# Altium integrated library Analog Devices Data Converters Digital-to-Analog Converters.IntLib: 2231 symbols (part 66 of 181)
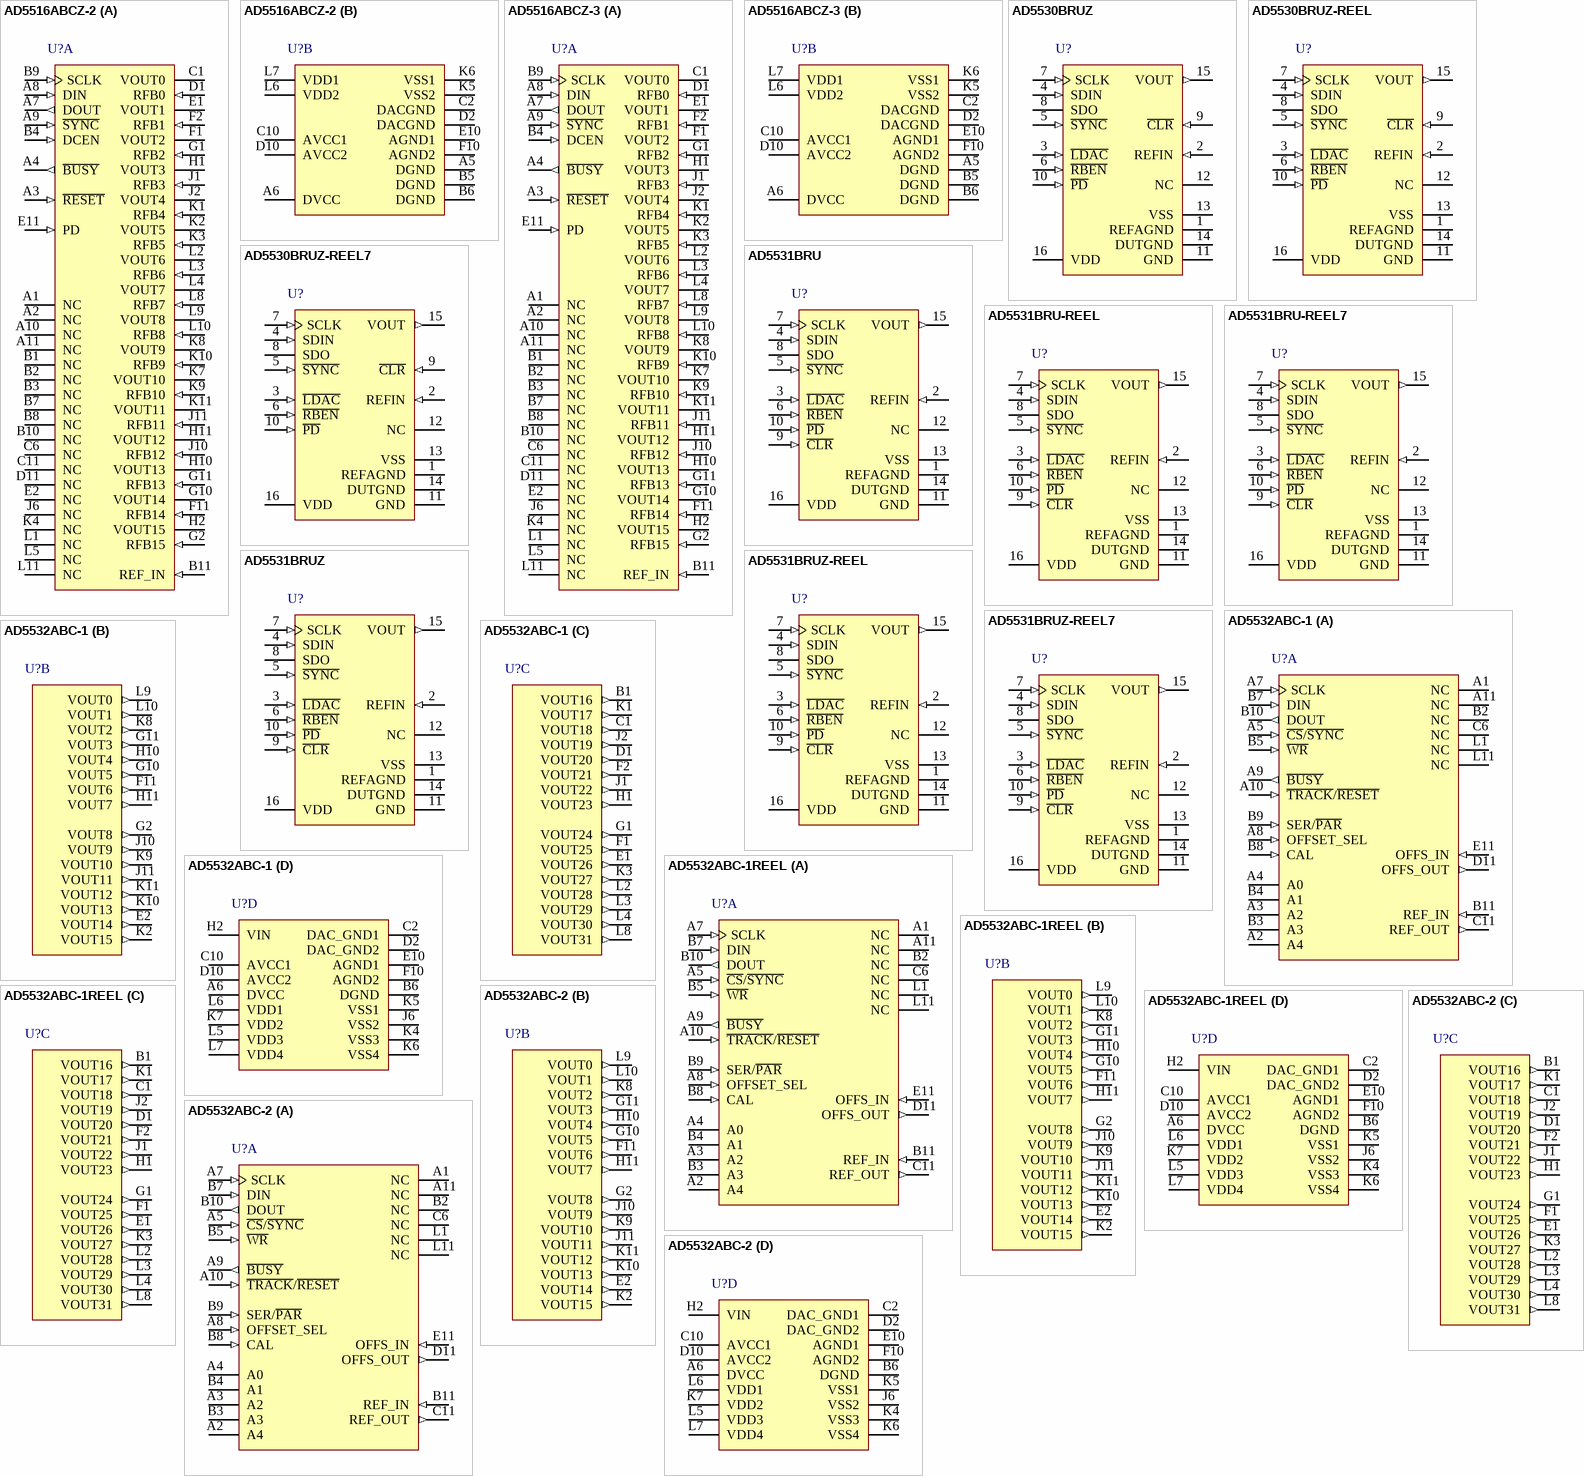
[diagram p179: symbols AD5516ABCZ-2 to AD5532ABC-2]

## AD5532ABC-1REEL
designator U?
32 Channel 14-Bit Digital-to-Analog Converter, -40 to +85 degC, BC-74, Reel; Generic Part Number: AD5532; Manufacturer: Analog Devices; PartNumber: AD5532ABC-1REEL; # DAC Outputs: 32; Max V+: 16.5V; Op Pwr Diss: 623mW; Resolution (Bits): 14; Settling Time: 22µs; Single Supply: No; DatasheetVersion: Rev.D; PackageVersion: 061306-A; PackageReference: BC-74; PackageDescription: 74-Ball Chip Scale Package Ball Grid Array [CSP_BGA]; Supplier 1: Mouser; Supplier Part Number 1: N/A; Packing: Reel; RoHS: N; Mounting Technology: Surface Mount; Code_JEDEC: MO-192-ABD-1; ComponentLink1Description: Manufacturer URL; ComponentLink1URL: http://www.analog.com/en/index.html; ComponentLink2Description: Datasheet; ComponentLink2URL: http://www.analog.com/static/imported-files/data_sheets/AD5532.pdf; ComponentLink3Description: Package Specification; ComponentLink3URL: http://www.analog.com/static/imported-files/packages/466795438540441203902150BC_74.pdf; ComponentLink4Description: Product URL; ComponentLink4URL: http://www.analog.com/en/digital-to-analog-converters/da-converters/ad5532/products/product.html
footprint BC-74 (BGA, 74-Leads, Body 12x12mm, Pitch 1mm)
part A pins: A1 NC "Not connected", A2 A4 "Parallel Interface: 5 address pins for 32 channels. A4 = MSB of channel address. A0 = LSB. Internal pull-up devices on these logic inputs. Therefore, they can be left floating and default to a logic high condition.", A3 A2 "Parallel Interface: 5 address pins for 32 channels. A4 = MSB of channel address. A0 = LSB. Internal pull-up devices on these logic inputs. Therefore, they can be left floating and default to a logic high condition.", A4 A0 "Parallel Interface: 5 address pins for 32 channels. A4 = MSB of channel address. A0 = LSB. Internal pull-up devices on these logic inputs. Therefore, they can be left floating and default to a logic high condition.", A5 ~{CS}/~{SYNC} (in) "This is the active low Chip Select pin for the parallel interface and the Frame Synchronization pin for the serial interface.", A7 SCLK (in) "Serial Clock Input for Serial Interface. This operates at clock speeds up to 14 MHz (20 MHz in ISHA mode).", A8 OFFSET_SEL (in) "Parallel interface: Offset Select pin; active high. This is used to select the offset channel. Internal pull-down devices on these logic inputs. Therefore, they can be left floating and default to a logic low condition", A9 ~{BUSY} (out) "This output tells the user when the input voltage is being acquired. It goes low during acquisition and returns high when the acquisition operation is complete.", A10 ~{TRACK}/~{RESET} (in) "If this input is held high, VIN is acquired once the channel is addressed. While it is held low, the input to the gain/offset stage is switched directly to VIN. The addressed channel begins to acquire VIN on the rising edge (See Datasheet)", A11 NC "Not connected", B2 NC "Not connected", B3 A3 "Parallel Interface: 5 address pins for 32 channels. A4 = MSB of channel address. A0 = LSB. Internal pull-up devices on these logic inputs. Therefore, they can be left floating and default to a logic high condition.", B4 A1 "Parallel Interface: 5 address pins for 32 channels. A4 = MSB of channel address. A0 = LSB. Internal pull-up devices on these logic inputs. Therefore, they can be left floating and default to a logic high condition.", B5 ~{WR} (in) "Parallel interface: Write pin; active low. This is used in conjunction with the C\S\ pin to address the device using the parallel interface. Internal pull-down devices on these logic inputs. Therefore, they can be left (See Datasheet)", B7 DIN (in) "Data Input for Serial Interface. Data must be valid on the falling edge of SCLK. Internal pull-up devices on these logic inputs. Therefore, they can be left floating and default to a logic high condition.", B8 CAL (in) "Parallel Interface: Control input that allows all 32 channels to acquire VIN simultaneously. Internal pull-down devices on these logic inputs. Therefore, they can be left floating and default to a logic low condition", B9 SER/~{PAR} (in) "This pin allows the user to select whether the serial or parallel interface is used. If the pin is tied low, the parallel interface is used. If it is tied high, the serial interface is used. Internal pull-down devices on (See Datasheet)", B10 DOUT (out) "Output from the DAC registers for read back. Data is clocked out on the rising edge of SCLK and is valid on the falling edge of SCLK.", B11 REF_IN (in) "Reference voltage for Channels 0-31.", C6 NC "Not connected", C11 REF_OUT (out) "Reference Output Voltage.", D11 OFFS_OUT (out) "Offset Output. This is the acquired/programmed offset voltage which can be tied to OFFS_IN to offset the span.", E11 OFFS_IN (in) "Offset Input. The user can supply a voltage here to offset the output span. OFFS_OUT can also be tied to this pin if the user wants to drive this pin with the offset channel.", L1 NC "Not connected", L11 NC "Not connected"
part B pins: E2 VOUT14 (out) "Analog Output Voltages from the 32 channels.", F11 VOUT6 (out) "Analog Output Voltages from the 32 channels.", G2 VOUT8 (out) "Analog Output Voltages from the 32 channels.", G10 VOUT5 (out) "Analog Output Voltages from the 32 channels.", G11 VOUT3 (out) "Analog Output Voltages from the 32 channels.", H10 VOUT4 (out) "Analog Output Voltages from the 32 channels.", H11 VOUT7 (out) "Analog Output Voltages from the 32 channels.", J10 VOUT9 (out) "Analog Output Voltages from the 32 channels.", J11 VOUT11 (out) "Analog Output Voltages from the 32 channels.", K2 VOUT15 (out) "Analog Output Voltages from the 32 channels.", K8 VOUT2 (out) "Analog Output Voltages from the 32 channels.", K9 VOUT10 (out) "Analog Output Voltages from the 32 channels.", K10 VOUT13 (out) "Analog Output Voltages from the 32 channels.", K11 VOUT12 (out) "Analog Output Voltages from the 32 channels.", L9 VOUT0 (out) "Analog Output Voltages from the 32 channels.", L10 VOUT1 (out) "Analog Output Voltages from the 32 channels."
part C pins: B1 VOUT16 (out) "Analog Output Voltages from the 32 channels.", C1 VOUT18 (out) "Analog Output Voltages from the 32 channels.", D1 VOUT20 (out) "Analog Output Voltages from the 32 channels.", E1 VOUT26 (out) "Analog Output Voltages from the 32 channels.", F1 VOUT25 (out) "Analog Output Voltages from the 32 channels.", F2 VOUT21 (out) "Analog Output Voltages from the 32 channels.", G1 VOUT24 (out) "Analog Output Voltages from the 32 channels.", H1 VOUT23 (out) "Analog Output Voltages from the 32 channels.", J1 VOUT22 (out) "Analog Output Voltages from the 32 channels.", J2 VOUT19 (out) "Analog Output Voltages from the 32 channels.", K1 VOUT17 (out) "Analog Output Voltages from the 32 channels.", K3 VOUT27 (out) "Analog Output Voltages from the 32 channels.", L2 VOUT28 (out) "Analog Output Voltages from the 32 channels.", L3 VOUT29 (out) "Analog Output Voltages from the 32 channels.", L4 VOUT30 (out) "Analog Output Voltages from the 32 channels.", L8 VOUT31 (out) "Analog Output Voltages from the 32 channels."
part D pins: A6 DVCC (power) "Digital Supply pin. Voltage range from 2.7 V to 5.25 V.", B6 DGND (power) "Digital GND pin.", C2 DAC_GND1 (power) "Reference GND supply for all DACs.", C10 AVCC1 (power) "Analog Supply pin. Voltage range from 4.75 V to 5.25 V.", D2 DAC_GND2 (power) "Reference GND supply for all DACs.", D10 AVCC2 (power) "Analog Supply pin. Voltage range from 4.75 V to 5.25 V.", E10 AGND1 (power) "Analog GND pin.", F10 AGND2 (power) "Analog GND pin.", H2 VIN (power) "Analog Input Voltage. Connect this to AGND if operating in DAC mode only.", J6 VSS2 (power) "VSS Supply pins. Voltage range from -4.75 V to -16.5 V.", K4 VSS3 (power) "VSS Supply pin. Voltage range from -4.75 V to -16.5 V.", K5 VSS1 (power) "VSS Supply pin. Voltage range from -4.75 V to -16.5 V.", K6 VSS4 (power) "VSS Supply pin. Voltage range from -4.75 V to -16.5 V.", K7 VDD2 (power) "VDD Supply pin. Voltage range from 8 V to 16.5 V.", L5 VDD3 (power) "VDD Supply pin. Voltage range from 8 V to 16.5 V.", L6 VDD1 (power) "VDD Supply pin. Voltage range from 8 V to 16.5 V.", L7 VDD4 (power) "VDD Supply pin. Voltage range from 8 V to 16.5 V."

## AD5532ABC-2
designator U?
32 Channel 14-Bit Digital-to-Analog Converter, -40 to +85 degC, BC-74, Tray; Generic Part Number: AD5532; Manufacturer: Analog Devices; PartNumber: AD5532ABC-2; # DAC Outputs: 32; Max V+: 16.5V; Op Pwr Diss: 623mW; Resolution (Bits): 14; Settling Time: 22µs; Single Supply: No; DatasheetVersion: Rev.D; PackageVersion: 061306-A; PackageReference: BC-74; PackageDescription: 74-Ball Chip Scale Package Ball Grid Array [CSP_BGA]; Supplier 1: Digi-Key; Supplier Part Number 1: AD5532ABC-2-ND; Supplier 2: Newark; Supplier Part Number 2: 02H1508; Supplier 3: Mouser; Supplier Part Number 3: 584-AD5532ABC-2; Packing: Tray; RoHS: N; Mounting Technology: Surface Mount; Code_JEDEC: MO-192-ABD-1; ComponentLink1Description: Manufacturer URL; ComponentLink1URL: http://www.analog.com/en/index.html; ComponentLink2Description: Datasheet; ComponentLink2URL: http://www.analog.com/static/imported-files/data_sheets/AD5532.pdf; ComponentLink3Description: Package Specification; ComponentLink3URL: http://www.analog.com/static/imported-files/packages/466795438540441203902150BC_74.pdf; ComponentLink4Description: Product URL; ComponentLink4URL: http://www.analog.com/en/digital-to-analog-converters/da-converters/ad5532/products/product.html
footprint BC-74 (BGA, 74-Leads, Body 12x12mm, Pitch 1mm)
part A pins: A1 NC "Not connected", A2 A4 "Parallel Interface: 5 address pins for 32 channels. A4 = MSB of channel address. A0 = LSB. Internal pull-up devices on these logic inputs. Therefore, they can be left floating and default to a logic high condition.", A3 A2 "Parallel Interface: 5 address pins for 32 channels. A4 = MSB of channel address. A0 = LSB. Internal pull-up devices on these logic inputs. Therefore, they can be left floating and default to a logic high condition.", A4 A0 "Parallel Interface: 5 address pins for 32 channels. A4 = MSB of channel address. A0 = LSB. Internal pull-up devices on these logic inputs. Therefore, they can be left floating and default to a logic high condition.", A5 ~{CS}/~{SYNC} (in) "This is the active low Chip Select pin for the parallel interface and the Frame Synchronization pin for the serial interface.", A7 SCLK (in) "Serial Clock Input for Serial Interface. This operates at clock speeds up to 14 MHz (20 MHz in ISHA mode).", A8 OFFSET_SEL (in) "Parallel interface: Offset Select pin; active high. This is used to select the offset channel. Internal pull-down devices on these logic inputs. Therefore, they can be left floating and default to a logic low condition", A9 ~{BUSY} (out) "This output tells the user when the input voltage is being acquired. It goes low during acquisition and returns high when the acquisition operation is complete.", A10 ~{TRACK}/~{RESET} (in) "If this input is held high, VIN is acquired once the channel is addressed. While it is held low, the input to the gain/offset stage is switched directly to VIN. The addressed channel begins to acquire VIN on the rising edge (See Datasheet)", A11 NC "Not connected", B2 NC "Not connected", B3 A3 "Parallel Interface: 5 address pins for 32 channels. A4 = MSB of channel address. A0 = LSB. Internal pull-up devices on these logic inputs. Therefore, they can be left floating and default to a logic high condition.", B4 A1 "Parallel Interface: 5 address pins for 32 channels. A4 = MSB of channel address. A0 = LSB. Internal pull-up devices on these logic inputs. Therefore, they can be left floating and default to a logic high condition.", B5 ~{WR} (in) "Parallel interface: Write pin; active low. This is used in conjunction with the C\S\ pin to address the device using the parallel interface. Internal pull-down devices on these logic inputs. Therefore, they can be left (See Datasheet)", B7 DIN (in) "Data Input for Serial Interface. Data must be valid on the falling edge of SCLK. Internal pull-up devices on these logic inputs. Therefore, they can be left floating and default to a logic high condition.", B8 CAL (in) "Parallel Interface: Control input that allows all 32 channels to acquire VIN simultaneously. Internal pull-down devices on these logic inputs. Therefore, they can be left floating and default to a logic low condition", B9 SER/~{PAR} (in) "This pin allows the user to select whether the serial or parallel interface is used. If the pin is tied low, the parallel interface is used. If it is tied high, the serial interface is used. Internal pull-down devices on (See Datasheet)", B10 DOUT (out) "Output from the DAC registers for read back. Data is clocked out on the rising edge of SCLK and is valid on the falling edge of SCLK.", B11 REF_IN (in) "Reference voltage for Channels 0-31.", C6 NC "Not connected", C11 REF_OUT (out) "Reference Output Voltage.", D11 OFFS_OUT (out) "Offset Output. This is the acquired/programmed offset voltage which can be tied to OFFS_IN to offset the span.", E11 OFFS_IN (in) "Offset Input. The user can supply a voltage here to offset the output span. OFFS_OUT can also be tied to this pin if the user wants to drive this pin with the offset channel.", L1 NC "Not connected", L11 NC "Not connected"
part B pins: E2 VOUT14 (out) "Analog Output Voltages from the 32 channels.", F11 VOUT6 (out) "Analog Output Voltages from the 32 channels.", G2 VOUT8 (out) "Analog Output Voltages from the 32 channels.", G10 VOUT5 (out) "Analog Output Voltages from the 32 channels.", G11 VOUT3 (out) "Analog Output Voltages from the 32 channels.", H10 VOUT4 (out) "Analog Output Voltages from the 32 channels.", H11 VOUT7 (out) "Analog Output Voltages from the 32 channels.", J10 VOUT9 (out) "Analog Output Voltages from the 32 channels.", J11 VOUT11 (out) "Analog Output Voltages from the 32 channels.", K2 VOUT15 (out) "Analog Output Voltages from the 32 channels.", K8 VOUT2 (out) "Analog Output Voltages from the 32 channels.", K9 VOUT10 (out) "Analog Output Voltages from the 32 channels.", K10 VOUT13 (out) "Analog Output Voltages from the 32 channels.", K11 VOUT12 (out) "Analog Output Voltages from the 32 channels.", L9 VOUT0 (out) "Analog Output Voltages from the 32 channels.", L10 VOUT1 (out) "Analog Output Voltages from the 32 channels."
part C pins: B1 VOUT16 (out) "Analog Output Voltages from the 32 channels.", C1 VOUT18 (out) "Analog Output Voltages from the 32 channels.", D1 VOUT20 (out) "Analog Output Voltages from the 32 channels.", E1 VOUT26 (out) "Analog Output Voltages from the 32 channels.", F1 VOUT25 (out) "Analog Output Voltages from the 32 channels.", F2 VOUT21 (out) "Analog Output Voltages from the 32 channels.", G1 VOUT24 (out) "Analog Output Voltages from the 32 channels.", H1 VOUT23 (out) "Analog Output Voltages from the 32 channels.", J1 VOUT22 (out) "Analog Output Voltages from the 32 channels.", J2 VOUT19 (out) "Analog Output Voltages from the 32 channels.", K1 VOUT17 (out) "Analog Output Voltages from the 32 channels.", K3 VOUT27 (out) "Analog Output Voltages from the 32 channels.", L2 VOUT28 (out) "Analog Output Voltages from the 32 channels.", L3 VOUT29 (out) "Analog Output Voltages from the 32 channels.", L4 VOUT30 (out) "Analog Output Voltages from the 32 channels.", L8 VOUT31 (out) "Analog Output Voltages from the 32 channels."
part D pins: A6 DVCC (power) "Digital Supply pin. Voltage range from 2.7 V to 5.25 V.", B6 DGND (power) "Digital GND pin.", C2 DAC_GND1 (power) "Reference GND supply for all DACs.", C10 AVCC1 (power) "Analog Supply pin. Voltage range from 4.75 V to 5.25 V.", D2 DAC_GND2 (power) "Reference GND supply for all DACs.", D10 AVCC2 (power) "Analog Supply pin. Voltage range from 4.75 V to 5.25 V.", E10 AGND1 (power) "Analog GND pin.", F10 AGND2 (power) "Analog GND pin.", H2 VIN (power) "Analog Input Voltage. Connect this to AGND if operating in DAC mode only.", J6 VSS2 (power) "VSS Supply pins. Voltage range from -4.75 V to -16.5 V.", K4 VSS3 (power) "VSS Supply pin. Voltage range from -4.75 V to -16.5 V.", K5 VSS1 (power) "VSS Supply pin. Voltage range from -4.75 V to -16.5 V.", K6 VSS4 (power) "VSS Supply pin. Voltage range from -4.75 V to -16.5 V.", K7 VDD2 (power) "VDD Supply pin. Voltage range from 8 V to 16.5 V.", L5 VDD3 (power) "VDD Supply pin. Voltage range from 8 V to 16.5 V.", L6 VDD1 (power) "VDD Supply pin. Voltage range from 8 V to 16.5 V.", L7 VDD4 (power) "VDD Supply pin. Voltage range from 8 V to 16.5 V."

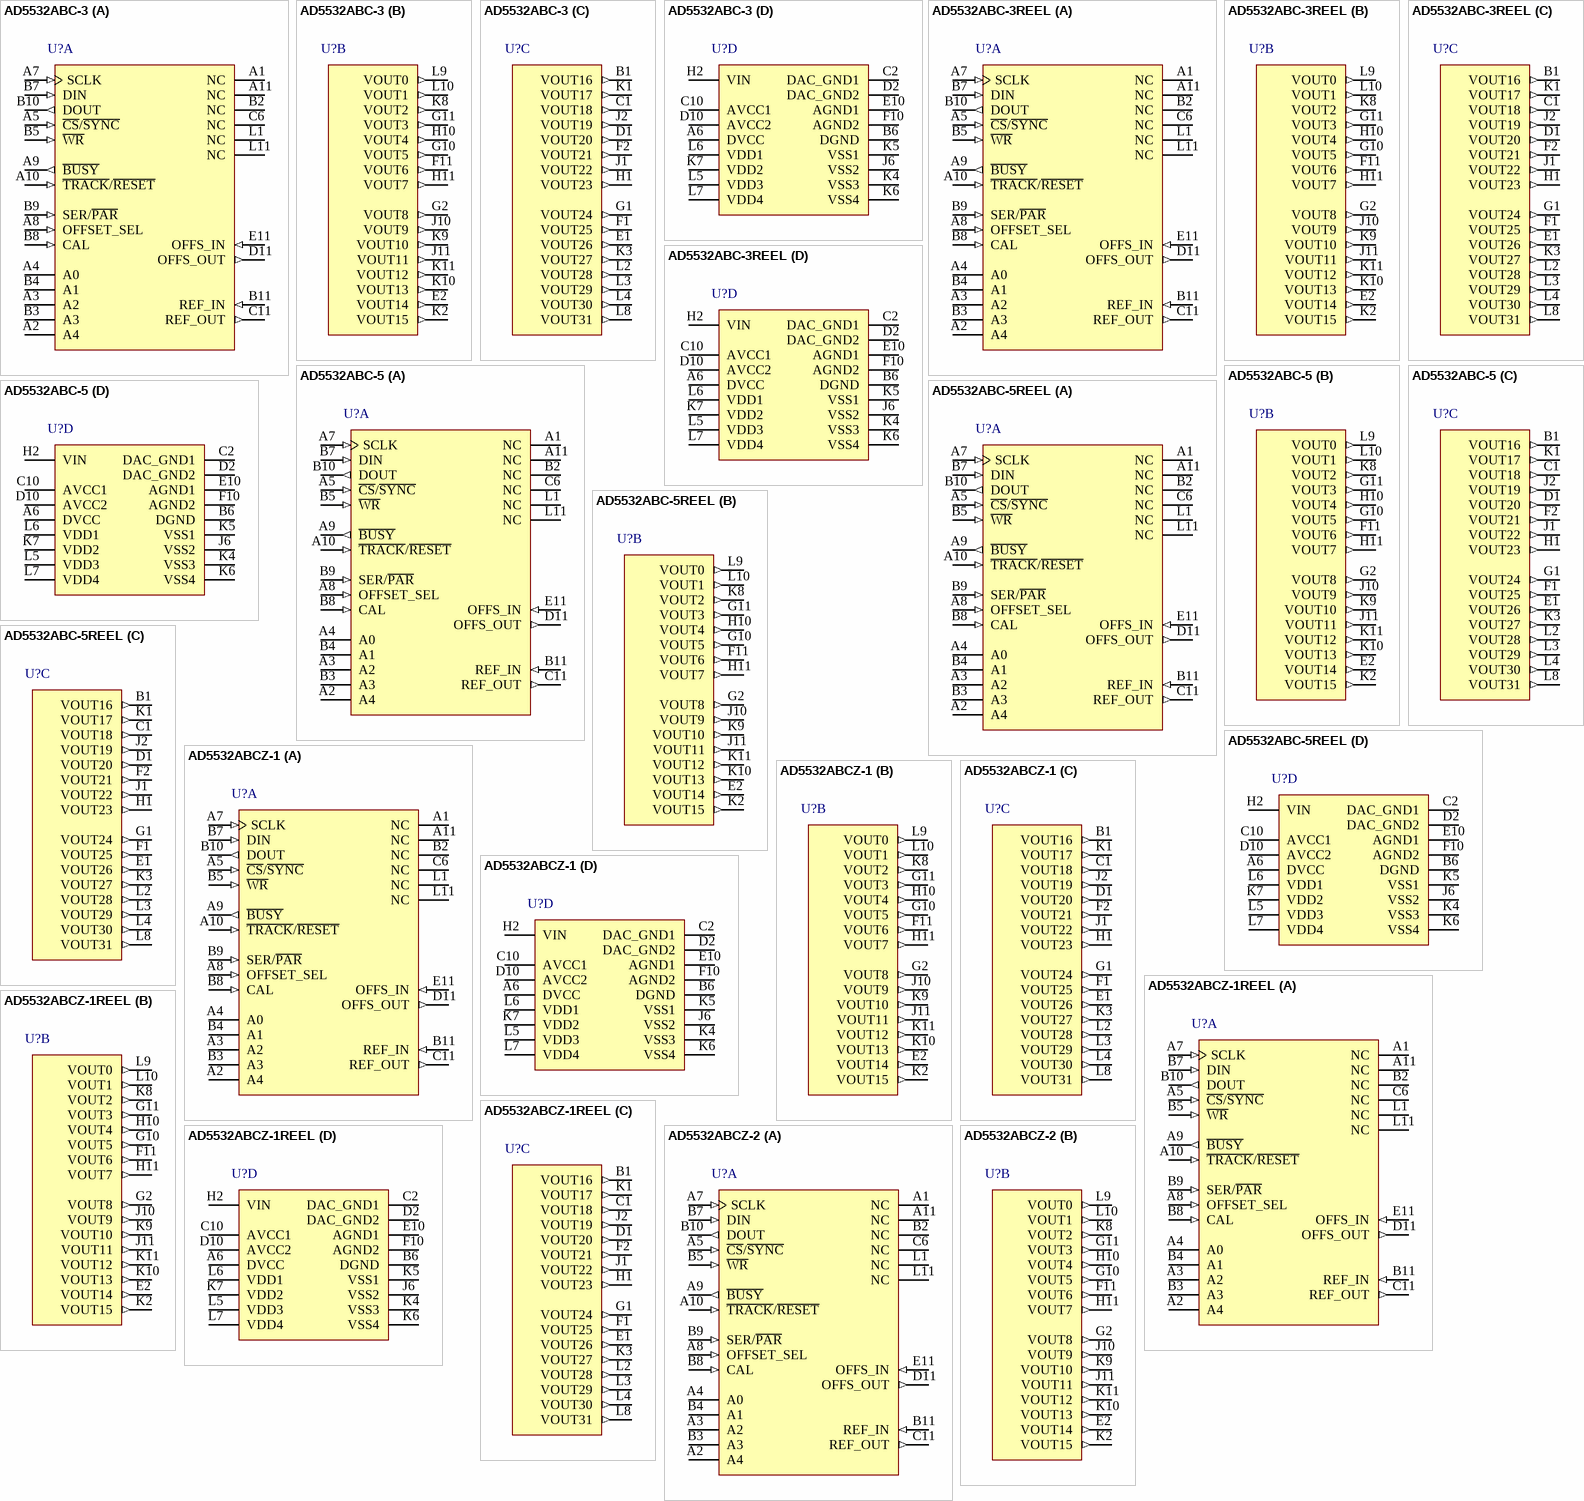
[diagram p36: symbols AD5532ABC-3 to AD5532ABCZ-2]

## AD5532ABC-3
designator U?
32 Channel 14-Bit Digital-to-Analog Converter, -40 to +85 degC, BC-74, Tray; Generic Part Number: AD5532; Manufacturer: Analog Devices; PartNumber: AD5532ABC-3; # DAC Outputs: 32; Max V+: 16.5V; Op Pwr Diss: 623mW; Resolution (Bits): 14; Settling Time: 22µs; Single Supply: No; DatasheetVersion: Rev.D; PackageVersion: 061306-A; PackageReference: BC-74; PackageDescription: 74-Ball Chip Scale Package Ball Grid Array [CSP_BGA]; Supplier 1: Digi-Key; Supplier Part Number 1: AD5532ABC-3-ND; Supplier 2: Mouser; Supplier Part Number 2: 584-AD5532ABC-3; Packing: Tray; RoHS: N; Mounting Technology: Surface Mount; Code_JEDEC: MO-192-ABD-1; ComponentLink1Description: Manufacturer URL; ComponentLink1URL: http://www.analog.com/en/index.html; ComponentLink2Description: Datasheet; ComponentLink2URL: http://www.analog.com/static/imported-files/data_sheets/AD5532.pdf; ComponentLink3Description: Package Specification; ComponentLink3URL: http://www.analog.com/static/imported-files/packages/466795438540441203902150BC_74.pdf; ComponentLink4Description: Product URL; ComponentLink4URL: http://www.analog.com/en/digital-to-analog-converters/da-converters/ad5532/products/product.html
footprint BC-74 (BGA, 74-Leads, Body 12x12mm, Pitch 1mm)
part A pins: A1 NC "Not connected", A2 A4 "Parallel Interface: 5 address pins for 32 channels. A4 = MSB of channel address. A0 = LSB. Internal pull-up devices on these logic inputs. Therefore, they can be left floating and default to a logic high condition.", A3 A2 "Parallel Interface: 5 address pins for 32 channels. A4 = MSB of channel address. A0 = LSB. Internal pull-up devices on these logic inputs. Therefore, they can be left floating and default to a logic high condition.", A4 A0 "Parallel Interface: 5 address pins for 32 channels. A4 = MSB of channel address. A0 = LSB. Internal pull-up devices on these logic inputs. Therefore, they can be left floating and default to a logic high condition.", A5 ~{CS}/~{SYNC} (in) "This is the active low Chip Select pin for the parallel interface and the Frame Synchronization pin for the serial interface.", A7 SCLK (in) "Serial Clock Input for Serial Interface. This operates at clock speeds up to 14 MHz (20 MHz in ISHA mode).", A8 OFFSET_SEL (in) "Parallel interface: Offset Select pin; active high. This is used to select the offset channel. Internal pull-down devices on these logic inputs. Therefore, they can be left floating and default to a logic low condition", A9 ~{BUSY} (out) "This output tells the user when the input voltage is being acquired. It goes low during acquisition and returns high when the acquisition operation is complete.", A10 ~{TRACK}/~{RESET} (in) "If this input is held high, VIN is acquired once the channel is addressed. While it is held low, the input to the gain/offset stage is switched directly to VIN. The addressed channel begins to acquire VIN on the rising edge (See Datasheet)", A11 NC "Not connected", B2 NC "Not connected", B3 A3 "Parallel Interface: 5 address pins for 32 channels. A4 = MSB of channel address. A0 = LSB. Internal pull-up devices on these logic inputs. Therefore, they can be left floating and default to a logic high condition.", B4 A1 "Parallel Interface: 5 address pins for 32 channels. A4 = MSB of channel address. A0 = LSB. Internal pull-up devices on these logic inputs. Therefore, they can be left floating and default to a logic high condition.", B5 ~{WR} (in) "Parallel interface: Write pin; active low. This is used in conjunction with the C\S\ pin to address the device using the parallel interface. Internal pull-down devices on these logic inputs. Therefore, they can be left (See Datasheet)", B7 DIN (in) "Data Input for Serial Interface. Data must be valid on the falling edge of SCLK. Internal pull-up devices on these logic inputs. Therefore, they can be left floating and default to a logic high condition.", B8 CAL (in) "Parallel Interface: Control input that allows all 32 channels to acquire VIN simultaneously. Internal pull-down devices on these logic inputs. Therefore, they can be left floating and default to a logic low condition", B9 SER/~{PAR} (in) "This pin allows the user to select whether the serial or parallel interface is used. If the pin is tied low, the parallel interface is used. If it is tied high, the serial interface is used. Internal pull-down devices on (See Datasheet)", B10 DOUT (out) "Output from the DAC registers for read back. Data is clocked out on the rising edge of SCLK and is valid on the falling edge of SCLK.", B11 REF_IN (in) "Reference voltage for Channels 0-31.", C6 NC "Not connected", C11 REF_OUT (out) "Reference Output Voltage.", D11 OFFS_OUT (out) "Offset Output. This is the acquired/programmed offset voltage which can be tied to OFFS_IN to offset the span.", E11 OFFS_IN (in) "Offset Input. The user can supply a voltage here to offset the output span. OFFS_OUT can also be tied to this pin if the user wants to drive this pin with the offset channel.", L1 NC "Not connected", L11 NC "Not connected"
part B pins: E2 VOUT14 (out) "Analog Output Voltages from the 32 channels.", F11 VOUT6 (out) "Analog Output Voltages from the 32 channels.", G2 VOUT8 (out) "Analog Output Voltages from the 32 channels.", G10 VOUT5 (out) "Analog Output Voltages from the 32 channels.", G11 VOUT3 (out) "Analog Output Voltages from the 32 channels.", H10 VOUT4 (out) "Analog Output Voltages from the 32 channels.", H11 VOUT7 (out) "Analog Output Voltages from the 32 channels.", J10 VOUT9 (out) "Analog Output Voltages from the 32 channels.", J11 VOUT11 (out) "Analog Output Voltages from the 32 channels.", K2 VOUT15 (out) "Analog Output Voltages from the 32 channels.", K8 VOUT2 (out) "Analog Output Voltages from the 32 channels.", K9 VOUT10 (out) "Analog Output Voltages from the 32 channels.", K10 VOUT13 (out) "Analog Output Voltages from the 32 channels.", K11 VOUT12 (out) "Analog Output Voltages from the 32 channels.", L9 VOUT0 (out) "Analog Output Voltages from the 32 channels.", L10 VOUT1 (out) "Analog Output Voltages from the 32 channels."
part C pins: B1 VOUT16 (out) "Analog Output Voltages from the 32 channels.", C1 VOUT18 (out) "Analog Output Voltages from the 32 channels.", D1 VOUT20 (out) "Analog Output Voltages from the 32 channels.", E1 VOUT26 (out) "Analog Output Voltages from the 32 channels.", F1 VOUT25 (out) "Analog Output Voltages from the 32 channels.", F2 VOUT21 (out) "Analog Output Voltages from the 32 channels.", G1 VOUT24 (out) "Analog Output Voltages from the 32 channels.", H1 VOUT23 (out) "Analog Output Voltages from the 32 channels.", J1 VOUT22 (out) "Analog Output Voltages from the 32 channels.", J2 VOUT19 (out) "Analog Output Voltages from the 32 channels.", K1 VOUT17 (out) "Analog Output Voltages from the 32 channels.", K3 VOUT27 (out) "Analog Output Voltages from the 32 channels.", L2 VOUT28 (out) "Analog Output Voltages from the 32 channels.", L3 VOUT29 (out) "Analog Output Voltages from the 32 channels.", L4 VOUT30 (out) "Analog Output Voltages from the 32 channels.", L8 VOUT31 (out) "Analog Output Voltages from the 32 channels."
part D pins: A6 DVCC (power) "Digital Supply pin. Voltage range from 2.7 V to 5.25 V.", B6 DGND (power) "Digital GND pin.", C2 DAC_GND1 (power) "Reference GND supply for all DACs.", C10 AVCC1 (power) "Analog Supply pin. Voltage range from 4.75 V to 5.25 V.", D2 DAC_GND2 (power) "Reference GND supply for all DACs.", D10 AVCC2 (power) "Analog Supply pin. Voltage range from 4.75 V to 5.25 V.", E10 AGND1 (power) "Analog GND pin.", F10 AGND2 (power) "Analog GND pin.", H2 VIN (power) "Analog Input Voltage. Connect this to AGND if operating in DAC mode only.", J6 VSS2 (power) "VSS Supply pins. Voltage range from -4.75 V to -16.5 V.", K4 VSS3 (power) "VSS Supply pin. Voltage range from -4.75 V to -16.5 V.", K5 VSS1 (power) "VSS Supply pin. Voltage range from -4.75 V to -16.5 V.", K6 VSS4 (power) "VSS Supply pin. Voltage range from -4.75 V to -16.5 V.", K7 VDD2 (power) "VDD Supply pin. Voltage range from 8 V to 16.5 V.", L5 VDD3 (power) "VDD Supply pin. Voltage range from 8 V to 16.5 V.", L6 VDD1 (power) "VDD Supply pin. Voltage range from 8 V to 16.5 V.", L7 VDD4 (power) "VDD Supply pin. Voltage range from 8 V to 16.5 V."

## AD5532ABC-3REEL
designator U?
32 Channel 14-Bit Digital-to-Analog Converter, -40 to +85 degC, BC-74, Reel; Generic Part Number: AD5532; Manufacturer: Analog Devices; PartNumber: AD5532ABC-3REEL; # DAC Outputs: 32; Max V+: 16.5V; Op Pwr Diss: 623mW; Resolution (Bits): 14; Settling Time: 22µs; Single Supply: No; DatasheetVersion: Rev.D; PackageVersion: 061306-A; PackageReference: BC-74; PackageDescription: 74-Ball Chip Scale Package Ball Grid Array [CSP_BGA]; Supplier 1: Mouser; Supplier Part Number 1: N/A; Packing: Reel; RoHS: N; Mounting Technology: Surface Mount; Code_JEDEC: MO-192-ABD-1; ComponentLink1Description: Manufacturer URL; ComponentLink1URL: http://www.analog.com/en/index.html; ComponentLink2Description: Datasheet; ComponentLink2URL: http://www.analog.com/static/imported-files/data_sheets/AD5532.pdf; ComponentLink3Description: Package Specification; ComponentLink3URL: http://www.analog.com/static/imported-files/packages/466795438540441203902150BC_74.pdf; ComponentLink4Description: Product URL; ComponentLink4URL: http://www.analog.com/en/digital-to-analog-converters/da-converters/ad5532/products/product.html
footprint BC-74 (BGA, 74-Leads, Body 12x12mm, Pitch 1mm)
part A pins: A1 NC "Not connected", A2 A4 "Parallel Interface: 5 address pins for 32 channels. A4 = MSB of channel address. A0 = LSB. Internal pull-up devices on these logic inputs. Therefore, they can be left floating and default to a logic high condition.", A3 A2 "Parallel Interface: 5 address pins for 32 channels. A4 = MSB of channel address. A0 = LSB. Internal pull-up devices on these logic inputs. Therefore, they can be left floating and default to a logic high condition.", A4 A0 "Parallel Interface: 5 address pins for 32 channels. A4 = MSB of channel address. A0 = LSB. Internal pull-up devices on these logic inputs. Therefore, they can be left floating and default to a logic high condition.", A5 ~{CS}/~{SYNC} (in) "This is the active low Chip Select pin for the parallel interface and the Frame Synchronization pin for the serial interface.", A7 SCLK (in) "Serial Clock Input for Serial Interface. This operates at clock speeds up to 14 MHz (20 MHz in ISHA mode).", A8 OFFSET_SEL (in) "Parallel interface: Offset Select pin; active high. This is used to select the offset channel. Internal pull-down devices on these logic inputs. Therefore, they can be left floating and default to a logic low condition", A9 ~{BUSY} (out) "This output tells the user when the input voltage is being acquired. It goes low during acquisition and returns high when the acquisition operation is complete.", A10 ~{TRACK}/~{RESET} (in) "If this input is held high, VIN is acquired once the channel is addressed. While it is held low, the input to the gain/offset stage is switched directly to VIN. The addressed channel begins to acquire VIN on the rising edge (See Datasheet)", A11 NC "Not connected", B2 NC "Not connected", B3 A3 "Parallel Interface: 5 address pins for 32 channels. A4 = MSB of channel address. A0 = LSB. Internal pull-up devices on these logic inputs. Therefore, they can be left floating and default to a logic high condition.", B4 A1 "Parallel Interface: 5 address pins for 32 channels. A4 = MSB of channel address. A0 = LSB. Internal pull-up devices on these logic inputs. Therefore, they can be left floating and default to a logic high condition.", B5 ~{WR} (in) "Parallel interface: Write pin; active low. This is used in conjunction with the C\S\ pin to address the device using the parallel interface. Internal pull-down devices on these logic inputs. Therefore, they can be left (See Datasheet)", B7 DIN (in) "Data Input for Serial Interface. Data must be valid on the falling edge of SCLK. Internal pull-up devices on these logic inputs. Therefore, they can be left floating and default to a logic high condition.", B8 CAL (in) "Parallel Interface: Control input that allows all 32 channels to acquire VIN simultaneously. Internal pull-down devices on these logic inputs. Therefore, they can be left floating and default to a logic low condition", B9 SER/~{PAR} (in) "This pin allows the user to select whether the serial or parallel interface is used. If the pin is tied low, the parallel interface is used. If it is tied high, the serial interface is used. Internal pull-down devices on (See Datasheet)", B10 DOUT (out) "Output from the DAC registers for read back. Data is clocked out on the rising edge of SCLK and is valid on the falling edge of SCLK.", B11 REF_IN (in) "Reference voltage for Channels 0-31.", C6 NC "Not connected", C11 REF_OUT (out) "Reference Output Voltage.", D11 OFFS_OUT (out) "Offset Output. This is the acquired/programmed offset voltage which can be tied to OFFS_IN to offset the span.", E11 OFFS_IN (in) "Offset Input. The user can supply a voltage here to offset the output span. OFFS_OUT can also be tied to this pin if the user wants to drive this pin with the offset channel.", L1 NC "Not connected", L11 NC "Not connected"
part B pins: E2 VOUT14 (out) "Analog Output Voltages from the 32 channels.", F11 VOUT6 (out) "Analog Output Voltages from the 32 channels.", G2 VOUT8 (out) "Analog Output Voltages from the 32 channels.", G10 VOUT5 (out) "Analog Output Voltages from the 32 channels.", G11 VOUT3 (out) "Analog Output Voltages from the 32 channels.", H10 VOUT4 (out) "Analog Output Voltages from the 32 channels.", H11 VOUT7 (out) "Analog Output Voltages from the 32 channels.", J10 VOUT9 (out) "Analog Output Voltages from the 32 channels.", J11 VOUT11 (out) "Analog Output Voltages from the 32 channels.", K2 VOUT15 (out) "Analog Output Voltages from the 32 channels.", K8 VOUT2 (out) "Analog Output Voltages from the 32 channels.", K9 VOUT10 (out) "Analog Output Voltages from the 32 channels.", K10 VOUT13 (out) "Analog Output Voltages from the 32 channels.", K11 VOUT12 (out) "Analog Output Voltages from the 32 channels.", L9 VOUT0 (out) "Analog Output Voltages from the 32 channels.", L10 VOUT1 (out) "Analog Output Voltages from the 32 channels."
part C pins: B1 VOUT16 (out) "Analog Output Voltages from the 32 channels.", C1 VOUT18 (out) "Analog Output Voltages from the 32 channels.", D1 VOUT20 (out) "Analog Output Voltages from the 32 channels.", E1 VOUT26 (out) "Analog Output Voltages from the 32 channels.", F1 VOUT25 (out) "Analog Output Voltages from the 32 channels.", F2 VOUT21 (out) "Analog Output Voltages from the 32 channels.", G1 VOUT24 (out) "Analog Output Voltages from the 32 channels.", H1 VOUT23 (out) "Analog Output Voltages from the 32 channels.", J1 VOUT22 (out) "Analog Output Voltages from the 32 channels.", J2 VOUT19 (out) "Analog Output Voltages from the 32 channels.", K1 VOUT17 (out) "Analog Output Voltages from the 32 channels.", K3 VOUT27 (out) "Analog Output Voltages from the 32 channels.", L2 VOUT28 (out) "Analog Output Voltages from the 32 channels.", L3 VOUT29 (out) "Analog Output Voltages from the 32 channels.", L4 VOUT30 (out) "Analog Output Voltages from the 32 channels.", L8 VOUT31 (out) "Analog Output Voltages from the 32 channels."
part D pins: A6 DVCC (power) "Digital Supply pin. Voltage range from 2.7 V to 5.25 V.", B6 DGND (power) "Digital GND pin.", C2 DAC_GND1 (power) "Reference GND supply for all DACs.", C10 AVCC1 (power) "Analog Supply pin. Voltage range from 4.75 V to 5.25 V.", D2 DAC_GND2 (power) "Reference GND supply for all DACs.", D10 AVCC2 (power) "Analog Supply pin. Voltage range from 4.75 V to 5.25 V.", E10 AGND1 (power) "Analog GND pin.", F10 AGND2 (power) "Analog GND pin.", H2 VIN (power) "Analog Input Voltage. Connect this to AGND if operating in DAC mode only.", J6 VSS2 (power) "VSS Supply pins. Voltage range from -4.75 V to -16.5 V.", K4 VSS3 (power) "VSS Supply pin. Voltage range from -4.75 V to -16.5 V.", K5 VSS1 (power) "VSS Supply pin. Voltage range from -4.75 V to -16.5 V.", K6 VSS4 (power) "VSS Supply pin. Voltage range from -4.75 V to -16.5 V.", K7 VDD2 (power) "VDD Supply pin. Voltage range from 8 V to 16.5 V.", L5 VDD3 (power) "VDD Supply pin. Voltage range from 8 V to 16.5 V.", L6 VDD1 (power) "VDD Supply pin. Voltage range from 8 V to 16.5 V.", L7 VDD4 (power) "VDD Supply pin. Voltage range from 8 V to 16.5 V."

## AD5532ABC-5
designator U?
32 Channel 14-Bit Digital-to-Analog Converter, -40 to +85 degC, BC-74, Tray; Generic Part Number: AD5532; Manufacturer: Analog Devices; PartNumber: AD5532ABC-5; # DAC Outputs: 32; Max V+: 16.5V; Op Pwr Diss: 623mW; Resolution (Bits): 14; Settling Time: 22µs; Single Supply: No; DatasheetVersion: Rev.D; PackageVersion: 061306-A; PackageReference: BC-74; PackageDescription: 74-Ball Chip Scale Package Ball Grid Array [CSP_BGA]; Supplier 1: Digi-Key; Supplier Part Number 1: AD5532ABC-5-ND; Supplier 2: Mouser; Supplier Part Number 2: 584-AD5532ABC-5; Packing: Tray; RoHS: N; Mounting Technology: Surface Mount; Code_JEDEC: MO-192-ABD-1; ComponentLink1Description: Manufacturer URL; ComponentLink1URL: http://www.analog.com/en/index.html; ComponentLink2Description: Datasheet; ComponentLink2URL: http://www.analog.com/static/imported-files/data_sheets/AD5532.pdf; ComponentLink3Description: Package Specification; ComponentLink3URL: http://www.analog.com/static/imported-files/packages/466795438540441203902150BC_74.pdf; ComponentLink4Description: Product URL; ComponentLink4URL: http://www.analog.com/en/digital-to-analog-converters/da-converters/ad5532/products/product.html
footprint BC-74 (BGA, 74-Leads, Body 12x12mm, Pitch 1mm)
part A pins: A1 NC "Not connected", A2 A4 "Parallel Interface: 5 address pins for 32 channels. A4 = MSB of channel address. A0 = LSB. Internal pull-up devices on these logic inputs. Therefore, they can be left floating and default to a logic high condition.", A3 A2 "Parallel Interface: 5 address pins for 32 channels. A4 = MSB of channel address. A0 = LSB. Internal pull-up devices on these logic inputs. Therefore, they can be left floating and default to a logic high condition.", A4 A0 "Parallel Interface: 5 address pins for 32 channels. A4 = MSB of channel address. A0 = LSB. Internal pull-up devices on these logic inputs. Therefore, they can be left floating and default to a logic high condition.", A5 ~{CS}/~{SYNC} (in) "This is the active low Chip Select pin for the parallel interface and the Frame Synchronization pin for the serial interface.", A7 SCLK (in) "Serial Clock Input for Serial Interface. This operates at clock speeds up to 14 MHz (20 MHz in ISHA mode).", A8 OFFSET_SEL (in) "Parallel interface: Offset Select pin; active high. This is used to select the offset channel. Internal pull-down devices on these logic inputs. Therefore, they can be left floating and default to a logic low condition", A9 ~{BUSY} (out) "This output tells the user when the input voltage is being acquired. It goes low during acquisition and returns high when the acquisition operation is complete.", A10 ~{TRACK}/~{RESET} (in) "If this input is held high, VIN is acquired once the channel is addressed. While it is held low, the input to the gain/offset stage is switched directly to VIN. The addressed channel begins to acquire VIN on the rising edge (See Datasheet)", A11 NC "Not connected", B2 NC "Not connected", B3 A3 "Parallel Interface: 5 address pins for 32 channels. A4 = MSB of channel address. A0 = LSB. Internal pull-up devices on these logic inputs. Therefore, they can be left floating and default to a logic high condition.", B4 A1 "Parallel Interface: 5 address pins for 32 channels. A4 = MSB of channel address. A0 = LSB. Internal pull-up devices on these logic inputs. Therefore, they can be left floating and default to a logic high condition.", B5 ~{WR} (in) "Parallel interface: Write pin; active low. This is used in conjunction with the C\S\ pin to address the device using the parallel interface. Internal pull-down devices on these logic inputs. Therefore, they can be left (See Datasheet)", B7 DIN (in) "Data Input for Serial Interface. Data must be valid on the falling edge of SCLK. Internal pull-up devices on these logic inputs. Therefore, they can be left floating and default to a logic high condition.", B8 CAL (in) "Parallel Interface: Control input that allows all 32 channels to acquire VIN simultaneously. Internal pull-down devices on these logic inputs. Therefore, they can be left floating and default to a logic low condition", B9 SER/~{PAR} (in) "This pin allows the user to select whether the serial or parallel interface is used. If the pin is tied low, the parallel interface is used. If it is tied high, the serial interface is used. Internal pull-down devices on (See Datasheet)", B10 DOUT (out) "Output from the DAC registers for read back. Data is clocked out on the rising edge of SCLK and is valid on the falling edge of SCLK.", B11 REF_IN (in) "Reference voltage for Channels 0-31.", C6 NC "Not connected", C11 REF_OUT (out) "Reference Output Voltage.", D11 OFFS_OUT (out) "Offset Output. This is the acquired/programmed offset voltage which can be tied to OFFS_IN to offset the span.", E11 OFFS_IN (in) "Offset Input. The user can supply a voltage here to offset the output span. OFFS_OUT can also be tied to this pin if the user wants to drive this pin with the offset channel.", L1 NC "Not connected", L11 NC "Not connected"
part B pins: E2 VOUT14 (out) "Analog Output Voltages from the 32 channels.", F11 VOUT6 (out) "Analog Output Voltages from the 32 channels.", G2 VOUT8 (out) "Analog Output Voltages from the 32 channels.", G10 VOUT5 (out) "Analog Output Voltages from the 32 channels.", G11 VOUT3 (out) "Analog Output Voltages from the 32 channels.", H10 VOUT4 (out) "Analog Output Voltages from the 32 channels.", H11 VOUT7 (out) "Analog Output Voltages from the 32 channels.", J10 VOUT9 (out) "Analog Output Voltages from the 32 channels.", J11 VOUT11 (out) "Analog Output Voltages from the 32 channels.", K2 VOUT15 (out) "Analog Output Voltages from the 32 channels.", K8 VOUT2 (out) "Analog Output Voltages from the 32 channels.", K9 VOUT10 (out) "Analog Output Voltages from the 32 channels.", K10 VOUT13 (out) "Analog Output Voltages from the 32 channels.", K11 VOUT12 (out) "Analog Output Voltages from the 32 channels.", L9 VOUT0 (out) "Analog Output Voltages from the 32 channels.", L10 VOUT1 (out) "Analog Output Voltages from the 32 channels."
part C pins: B1 VOUT16 (out) "Analog Output Voltages from the 32 channels.", C1 VOUT18 (out) "Analog Output Voltages from the 32 channels.", D1 VOUT20 (out) "Analog Output Voltages from the 32 channels.", E1 VOUT26 (out) "Analog Output Voltages from the 32 channels.", F1 VOUT25 (out) "Analog Output Voltages from the 32 channels.", F2 VOUT21 (out) "Analog Output Voltages from the 32 channels.", G1 VOUT24 (out) "Analog Output Voltages from the 32 channels.", H1 VOUT23 (out) "Analog Output Voltages from the 32 channels.", J1 VOUT22 (out) "Analog Output Voltages from the 32 channels.", J2 VOUT19 (out) "Analog Output Voltages from the 32 channels.", K1 VOUT17 (out) "Analog Output Voltages from the 32 channels.", K3 VOUT27 (out) "Analog Output Voltages from the 32 channels.", L2 VOUT28 (out) "Analog Output Voltages from the 32 channels.", L3 VOUT29 (out) "Analog Output Voltages from the 32 channels.", L4 VOUT30 (out) "Analog Output Voltages from the 32 channels.", L8 VOUT31 (out) "Analog Output Voltages from the 32 channels."
part D pins: A6 DVCC (power) "Digital Supply pin. Voltage range from 2.7 V to 5.25 V.", B6 DGND (power) "Digital GND pin.", C2 DAC_GND1 (power) "Reference GND supply for all DACs.", C10 AVCC1 (power) "Analog Supply pin. Voltage range from 4.75 V to 5.25 V.", D2 DAC_GND2 (power) "Reference GND supply for all DACs.", D10 AVCC2 (power) "Analog Supply pin. Voltage range from 4.75 V to 5.25 V.", E10 AGND1 (power) "Analog GND pin.", F10 AGND2 (power) "Analog GND pin.", H2 VIN (power) "Analog Input Voltage. Connect this to AGND if operating in DAC mode only.", J6 VSS2 (power) "VSS Supply pins. Voltage range from -4.75 V to -16.5 V.", K4 VSS3 (power) "VSS Supply pin. Voltage range from -4.75 V to -16.5 V.", K5 VSS1 (power) "VSS Supply pin. Voltage range from -4.75 V to -16.5 V.", K6 VSS4 (power) "VSS Supply pin. Voltage range from -4.75 V to -16.5 V.", K7 VDD2 (power) "VDD Supply pin. Voltage range from 8 V to 16.5 V.", L5 VDD3 (power) "VDD Supply pin. Voltage range from 8 V to 16.5 V.", L6 VDD1 (power) "VDD Supply pin. Voltage range from 8 V to 16.5 V.", L7 VDD4 (power) "VDD Supply pin. Voltage range from 8 V to 16.5 V."

## AD5532ABC-5REEL
designator U?
32 Channel 14-Bit Digital-to-Analog Converter, -40 to +85 degC, BC-74, Reel; Generic Part Number: AD5532; Manufacturer: Analog Devices; PartNumber: AD5532ABC-5REEL; # DAC Outputs: 32; Max V+: 16.5V; Op Pwr Diss: 623mW; Resolution (Bits): 14; Settling Time: 22µs; Single Supply: No; DatasheetVersion: Rev.D; PackageVersion: 061306-A; PackageReference: BC-74; PackageDescription: 74-Ball Chip Scale Package Ball Grid Array [CSP_BGA]; Supplier 1: Mouser; Supplier Part Number 1: N/A; Packing: Reel; RoHS: N; Mounting Technology: Surface Mount; Code_JEDEC: MO-192-ABD-1; ComponentLink1Description: Manufacturer URL; ComponentLink1URL: http://www.analog.com/en/index.html; ComponentLink2Description: Datasheet; ComponentLink2URL: http://www.analog.com/static/imported-files/data_sheets/AD5532.pdf; ComponentLink3Description: Package Specification; ComponentLink3URL: http://www.analog.com/static/imported-files/packages/466795438540441203902150BC_74.pdf; ComponentLink4Description: Product URL; ComponentLink4URL: http://www.analog.com/en/digital-to-analog-converters/da-converters/ad5532/products/product.html
footprint BC-74 (BGA, 74-Leads, Body 12x12mm, Pitch 1mm)
part A pins: A1 NC "Not connected", A2 A4 "Parallel Interface: 5 address pins for 32 channels. A4 = MSB of channel address. A0 = LSB. Internal pull-up devices on these logic inputs. Therefore, they can be left floating and default to a logic high condition.", A3 A2 "Parallel Interface: 5 address pins for 32 channels. A4 = MSB of channel address. A0 = LSB. Internal pull-up devices on these logic inputs. Therefore, they can be left floating and default to a logic high condition.", A4 A0 "Parallel Interface: 5 address pins for 32 channels. A4 = MSB of channel address. A0 = LSB. Internal pull-up devices on these logic inputs. Therefore, they can be left floating and default to a logic high condition.", A5 ~{CS}/~{SYNC} (in) "This is the active low Chip Select pin for the parallel interface and the Frame Synchronization pin for the serial interface.", A7 SCLK (in) "Serial Clock Input for Serial Interface. This operates at clock speeds up to 14 MHz (20 MHz in ISHA mode).", A8 OFFSET_SEL (in) "Parallel interface: Offset Select pin; active high. This is used to select the offset channel. Internal pull-down devices on these logic inputs. Therefore, they can be left floating and default to a logic low condition", A9 ~{BUSY} (out) "This output tells the user when the input voltage is being acquired. It goes low during acquisition and returns high when the acquisition operation is complete.", A10 ~{TRACK}/~{RESET} (in) "If this input is held high, VIN is acquired once the channel is addressed. While it is held low, the input to the gain/offset stage is switched directly to VIN. The addressed channel begins to acquire VIN on the rising edge (See Datasheet)", A11 NC "Not connected", B2 NC "Not connected", B3 A3 "Parallel Interface: 5 address pins for 32 channels. A4 = MSB of channel address. A0 = LSB. Internal pull-up devices on these logic inputs. Therefore, they can be left floating and default to a logic high condition.", B4 A1 "Parallel Interface: 5 address pins for 32 channels. A4 = MSB of channel address. A0 = LSB. Internal pull-up devices on these logic inputs. Therefore, they can be left floating and default to a logic high condition.", B5 ~{WR} (in) "Parallel interface: Write pin; active low. This is used in conjunction with the C\S\ pin to address the device using the parallel interface. Internal pull-down devices on these logic inputs. Therefore, they can be left (See Datasheet)", B7 DIN (in) "Data Input for Serial Interface. Data must be valid on the falling edge of SCLK. Internal pull-up devices on these logic inputs. Therefore, they can be left floating and default to a logic high condition.", B8 CAL (in) "Parallel Interface: Control input that allows all 32 channels to acquire VIN simultaneously. Internal pull-down devices on these logic inputs. Therefore, they can be left floating and default to a logic low condition", B9 SER/~{PAR} (in) "This pin allows the user to select whether the serial or parallel interface is used. If the pin is tied low, the parallel interface is used. If it is tied high, the serial interface is used. Internal pull-down devices on (See Datasheet)", B10 DOUT (out) "Output from the DAC registers for read back. Data is clocked out on the rising edge of SCLK and is valid on the falling edge of SCLK.", B11 REF_IN (in) "Reference voltage for Channels 0-31.", C6 NC "Not connected", C11 REF_OUT (out) "Reference Output Voltage.", D11 OFFS_OUT (out) "Offset Output. This is the acquired/programmed offset voltage which can be tied to OFFS_IN to offset the span.", E11 OFFS_IN (in) "Offset Input. The user can supply a voltage here to offset the output span. OFFS_OUT can also be tied to this pin if the user wants to drive this pin with the offset channel.", L1 NC "Not connected", L11 NC "Not connected"
part B pins: E2 VOUT14 (out) "Analog Output Voltages from the 32 channels.", F11 VOUT6 (out) "Analog Output Voltages from the 32 channels.", G2 VOUT8 (out) "Analog Output Voltages from the 32 channels.", G10 VOUT5 (out) "Analog Output Voltages from the 32 channels.", G11 VOUT3 (out) "Analog Output Voltages from the 32 channels.", H10 VOUT4 (out) "Analog Output Voltages from the 32 channels.", H11 VOUT7 (out) "Analog Output Voltages from the 32 channels.", J10 VOUT9 (out) "Analog Output Voltages from the 32 channels.", J11 VOUT11 (out) "Analog Output Voltages from the 32 channels.", K2 VOUT15 (out) "Analog Output Voltages from the 32 channels.", K8 VOUT2 (out) "Analog Output Voltages from the 32 channels.", K9 VOUT10 (out) "Analog Output Voltages from the 32 channels.", K10 VOUT13 (out) "Analog Output Voltages from the 32 channels.", K11 VOUT12 (out) "Analog Output Voltages from the 32 channels.", L9 VOUT0 (out) "Analog Output Voltages from the 32 channels.", L10 VOUT1 (out) "Analog Output Voltages from the 32 channels."
part C pins: B1 VOUT16 (out) "Analog Output Voltages from the 32 channels.", C1 VOUT18 (out) "Analog Output Voltages from the 32 channels.", D1 VOUT20 (out) "Analog Output Voltages from the 32 channels.", E1 VOUT26 (out) "Analog Output Voltages from the 32 channels.", F1 VOUT25 (out) "Analog Output Voltages from the 32 channels.", F2 VOUT21 (out) "Analog Output Voltages from the 32 channels.", G1 VOUT24 (out) "Analog Output Voltages from the 32 channels.", H1 VOUT23 (out) "Analog Output Voltages from the 32 channels.", J1 VOUT22 (out) "Analog Output Voltages from the 32 channels.", J2 VOUT19 (out) "Analog Output Voltages from the 32 channels.", K1 VOUT17 (out) "Analog Output Voltages from the 32 channels.", K3 VOUT27 (out) "Analog Output Voltages from the 32 channels.", L2 VOUT28 (out) "Analog Output Voltages from the 32 channels.", L3 VOUT29 (out) "Analog Output Voltages from the 32 channels.", L4 VOUT30 (out) "Analog Output Voltages from the 32 channels.", L8 VOUT31 (out) "Analog Output Voltages from the 32 channels."
part D pins: A6 DVCC (power) "Digital Supply pin. Voltage range from 2.7 V to 5.25 V.", B6 DGND (power) "Digital GND pin.", C2 DAC_GND1 (power) "Reference GND supply for all DACs.", C10 AVCC1 (power) "Analog Supply pin. Voltage range from 4.75 V to 5.25 V.", D2 DAC_GND2 (power) "Reference GND supply for all DACs.", D10 AVCC2 (power) "Analog Supply pin. Voltage range from 4.75 V to 5.25 V.", E10 AGND1 (power) "Analog GND pin.", F10 AGND2 (power) "Analog GND pin.", H2 VIN (power) "Analog Input Voltage. Connect this to AGND if operating in DAC mode only.", J6 VSS2 (power) "VSS Supply pins. Voltage range from -4.75 V to -16.5 V.", K4 VSS3 (power) "VSS Supply pin. Voltage range from -4.75 V to -16.5 V.", K5 VSS1 (power) "VSS Supply pin. Voltage range from -4.75 V to -16.5 V.", K6 VSS4 (power) "VSS Supply pin. Voltage range from -4.75 V to -16.5 V.", K7 VDD2 (power) "VDD Supply pin. Voltage range from 8 V to 16.5 V.", L5 VDD3 (power) "VDD Supply pin. Voltage range from 8 V to 16.5 V.", L6 VDD1 (power) "VDD Supply pin. Voltage range from 8 V to 16.5 V.", L7 VDD4 (power) "VDD Supply pin. Voltage range from 8 V to 16.5 V."